# Altium schematic symbol library TB6612.SchLib: 1 symbol
Pins are listed as number, name and electrical type; pins without a type are passive.

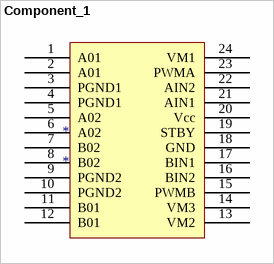
[diagram p0: symbol Component_1]

## Component_1
designator *
pins: 1 A01, 2 A01, 3 PGND1, 4 PGND1, 5 A02, 6 A02, 7 B02, 8 B02, 9 PGND2, 10 PGND2, 11 B01, 12 B01, 13 VM2, 14 VM3, 15 PWMB, 16 BIN2, 17 BIN1, 18 GND, 19 STBY, 20 Vcc, 21 AIN1, 22 AIN2, 23 PWMA, 24 VM1